# Altium schematic symbol library AG.Connectors.SchLib: 43 symbols
Pins are listed as number, name and electrical type; pins without a type are passive.

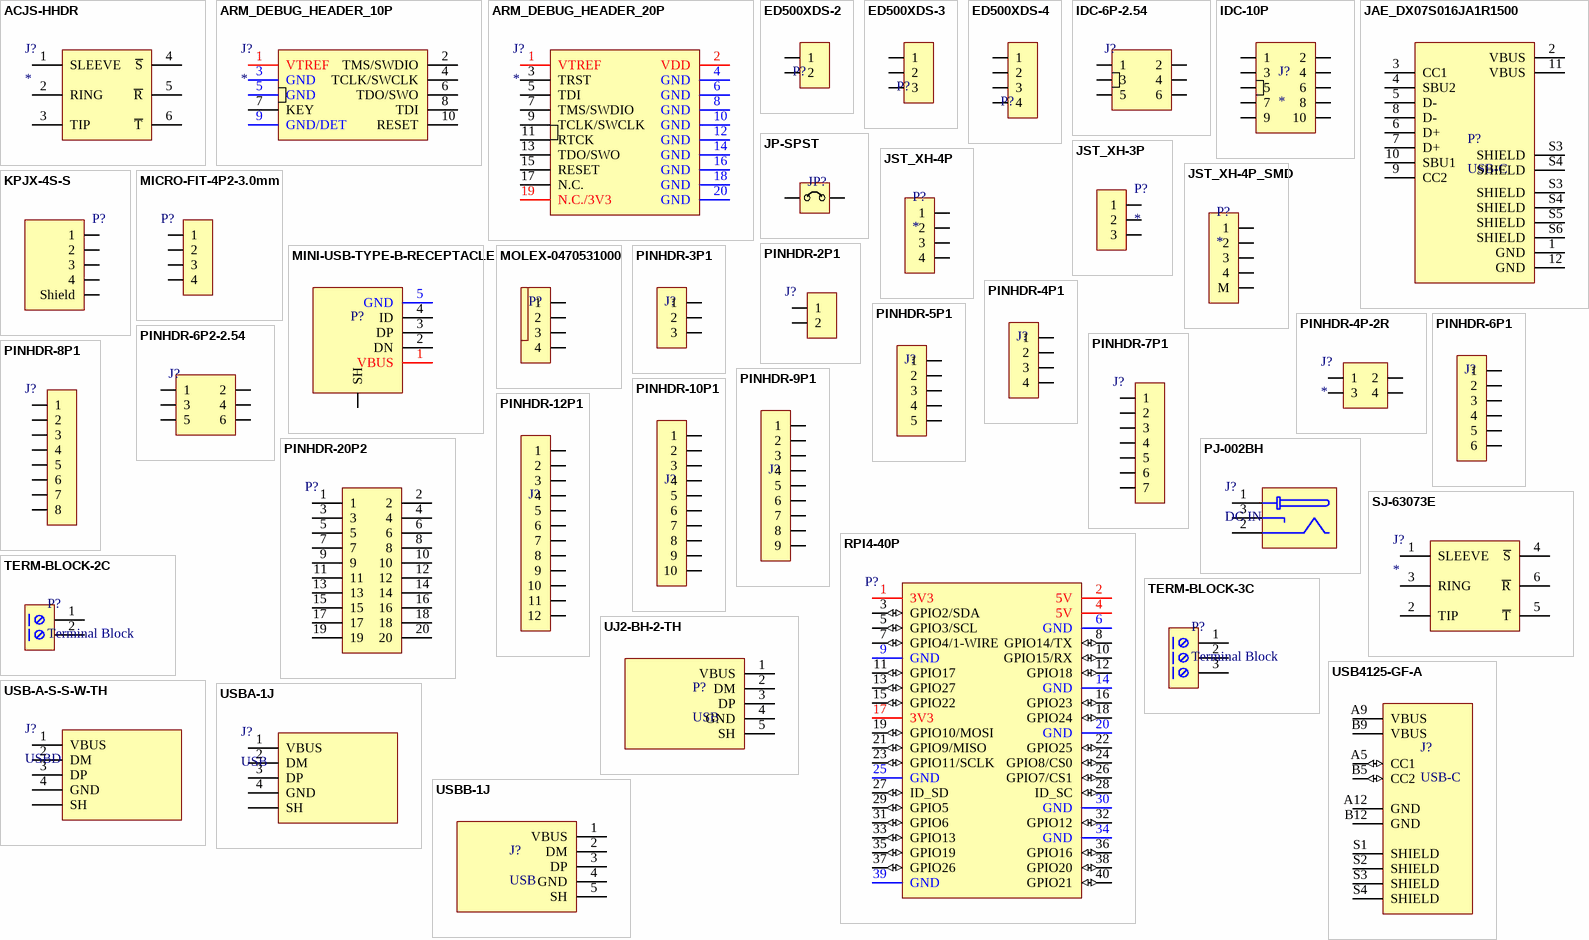
[diagram p0: symbols ACJS-HHDR to USBB-1J]

## ACJS-HHDR
designator J?
1/4" Stereo Jack PCB Receptacle; Manufacturer: Amphenol; Manufacturer Product No: ACJM-HHDR; Alternative Supplier: Belchip; Alternative Supplier Link: https://belchip.by/product/?selected_product=44079; Alternative Supplier Part No: 44079; Mounting Technology: HMT
footprint ACJS-HHDR (1/4" Stereo Jack PCB Receptacle)
pins: 1 SLEEVE, 2 RING, 3 TIP, 4 ~{S}, 5 ~{R}, 6 ~{T}

## ARM_DEBUG_HEADER_10P
designator J?
ARM Cortex Debug 10-Pin Header
footprint ARM_CORTEX_DEBUG_HEADER-1.27-10P-2R (ARM Cortex-M Debug 10-pin Connector 1.27mm Pitch Through Hole)
footprint HEADER-1.27-10P-2R
footprint ARM_CORTEX_DEBUG_HEADER-1.27-10P-2R_NOMASK (ARM Cortex-M Debug 10-pin Connector 1.27mm Pitch Through Hole)
pins: 1 VTREF, 2 TMS/SWDIO, 3 GND, 4 TCLK/SWCLK, 5 GND, 6 TDO/SWO, 7 KEY, 8 TDI, 9 GND/DET, 10 RESET

## ARM_DEBUG_HEADER_20P
designator J?
ARM Standard 20-Pin Header
footprint ARM_STD_20P_HEADER-2.54-20P2 (ARM Standard 20-Pin Connector 2.54mm Pitch)
footprint HEADER-2.54-20P2 (Pin Header 2 Rows 20 Positions Pitch 2.54 mm)
pins: 1 VTREF, 2 VDD, 3 TRST, 4 GND, 5 TDI, 6 GND, 7 TMS/SWDIO, 8 GND, 9 TCLK/SWCLK, 10 GND, 11 RTCK, 12 GND, 13 TDO/SWO, 14 GND, 15 RESET, 16 GND, 17 N.C., 18 GND, 19 N.C./3V3, 20 GND

## ED500XDS-2
designator P?  (value not drawn)
TERM BLK 2P SIDE ENT 5.08MM PCB; PartNo: EDZ500/2DS; URL: https://www.digikey.com/en/products/detail/on-shore-technology-inc/EDZ500-2DS/250582; Datasheet: http://www.on-shore.com/wp-content/uploads/ED500XDS.pdf
footprint ED500XDS-2
pins: 1, 2

## ED500XDS-3
designator P?  (value not drawn)
TERM BLK 3P SIDE ENT 5.08MM PCB; Part No: EDZ500/3DS; Rated Current: 15A; Voltage: 300V; URL: https://www.digikey.com/en/products/detail/on-shore-technology-inc/EDZ500-3DS/250583; Datasheet: http://www.on-shore.com/wp-content/uploads/ED500XDS.pdf; Mounting Technology: HMT
footprint ED500XDS-3
pins: 1, 2, 3

## ED500XDS-4
designator P?  (value not drawn)
TERM BLK 4P SIDE ENT 5.08MM PCB; Rated Current: 15A; Voltage: 300V; Part No: *; URL: *; Datasheet: http://www.on-shore.com/wp-content/uploads/ED500XDS.pdf; Mounting Technology: HMT
pins: 1, 2, 3, 4

## IDC-6P-2.54
designator J?  (value not drawn)
Rectangular Pin Header 6 Positions 2 Rows
pins: 1, 2, 3, 4, 5, 6

## IDC-10P
designator J?
IDC Connector Header Double Row 10 Position; Manufacturer: Wurth Elektronik; Manufacturer Part No: 61201021621; Supplier Part No: 732-2094-ND; Supplier: DigiKey; Supplier Link: https://www.digikey.com/en/products/detail/würth-elektronik/61201021621/2060590; Mounting Technology: THT
footprint WR-BHD-61201021621 (IDC-10P WR-BHD Male Box Header)
footprint IDC-10_100MIL_SIDE
pins: 1, 2, 3, 4, 5, 6, 7, 8, 9, 10

## JAE_DX07S016JA1R1500
designator P?, comment USB-C
CONN RCP USB2.0 TYP C 24P SMD RA; Part Number: DX07S016JA1R1500
footprint JAE_DX07S016JA1R1500 (CONN RCP USB2.0 TYP C 24P SMD RA)
footprint USBC-16P-TH (https://aliexpress.ru/item/1005001283294686.html)
pins: 1 GND (power), 2 VBUS (power), 3 CC1, 4 SBU2, 5 D-, 6 D+, 7 D+, 8 D-, 9 CC2, 10 SBU1, 11 VBUS (power), 12 GND (power), S3 SHIELD, S3 SHIELD, S4 SHIELD, S4 SHIELD, S5 SHIELD, S6 SHIELD

## JP-SPST
designator JP?, comment ON/OFF  (value not drawn)
Jumper (SPST/ON-OFF)
footprint HEADER-2.54-2P1 (Pin Header Single Row 2 Positions Pitch 2.54 mm)
pins: 1, 2

## JST_XH-3P
designator P?
CONN HEADER VERT 3POS 2.5MM
footprint JST_B3B-XH-A_LF_SN
pins: 1, 2, 3

## JST_XH-4P
designator P?
footprint S4BXHSM4TBLFSN
footprint S4BXHSM4TBLFSN_N3D
pins: 1, 2, 3, 4

## JST_XH-4P_SMD
designator P?
footprint S4BXHSM4TBLFSN
footprint S4BXHSM4TBLFSN_N3D
pins: 1, 2, 3, 4, MNT M

## KPJX-4S-S
designator P?  (value not drawn)
Power Mini-DIN 4 Positions
footprint KPJX-4S-S (Kycon KPJX-4S-S Power Mini-DIN Connector 4 Positions)
pins: 1, 2, 3, 4, SH Shield

## MICRO-FIT-4P2-3.0mm
designator P?  (value not drawn)
Molex Micro-Fit 4 Positions 2 Rows
footprint MICRO-FIT-4P2-3.0mm (Molex Micro-Fit 4 Positions 2 Rows 3.0mm Pitch)
pins: 1, 2, 3, 4

## MINI-USB-TYPE-B-RECEPTACLE
designator P?, comment USB  (value not drawn)
CONN RCPT USB2.0 MINI B SMD R/A; Manufacturer: Molex; Manufacturer Product Number: 0675031020; Supplier URL: https://www.digikey.com/en/products/detail/molex/0675031020/1624424; Mounting Technology: HMT; Supplier: DigiKey; Supplier Part No: WM5461CT-ND; Supplier #2: Belchip; Supplier URL #2: https://belchip.by/product/?selected_product=40027; Supplier Part No #2: 40027
footprint MOLEX-0675031020 (CONN RCPT USB2.0 MINI B SMD R/A)
pins: 1 VBUS, 2 DN, 3 DP, 4 ID, 5 GND, SH

## MOLEX-0470531000
designator P?, comment Fan  (value not drawn)
CONN HEADER VERT 4POS 2.54MM; Manufacturer: Molex; PartNo: WM4330-ND; ProductNumber: 0470531000; ShippingPackaging: Bulk; Comments: CPU Fan Male Connector; Supplier: DigiKey; URL: https://www.digikey.com/en/products/detail/molex/0470531000/2421261; Mounting: HMT; UnitPrice: $0.46
footprint MOLEX-0022272041 (CONN HEADER VERT 4POS 2.54MM)
pins: 1, 2, 3, 4

## PINHDR-2P1
designator J?  (value not drawn)
Pin Header Single Row 2 Positions; Mounting Technology: THT
footprint HEADER-2.54-2P1 (Pin Header Single Row 2 Positions Pitch 2.54 mm)
pins: 1, 2

## PINHDR-3P1
designator J?  (value not drawn)
Generic Pin Header 3x1
footprint HEADER-2.54-3P1 (Pin Header Single Row 3 Positions Pitch 2.54 mm)
pins: 1, 2, 3

## PINHDR-4P1
designator J?  (value not drawn)
Generic Pin Header 4x1
footprint HEADER-2.54-4P1 (Pin Header Single Row 4 Positions Pitch 2.54 mm)
pins: 1, 2, 3, 4

## PINHDR-4P-2R
designator J?
Rectangular Header Male Pins Double Row 4 Positions; Mounting Technology: THT
footprint HEADER-2.54-4P-2R (Rectangular Header Male Pins Double Row 4 Positions Pitch 2.54 mm)
pins: 1, 2, 3, 4

## PINHDR-5P1
designator J?  (value not drawn)
Generic Pin Header 5x1
footprint HEADER-2.54-5P1 (Pin Header Single Row 5 Positions Pitch 2.54 mm)
pins: 1, 2, 3, 4, 5

## PINHDR-6P1
designator J?
Pin Header Single Row 6 Positions; Mounting Technology: THT
footprint HEADER-2.54-6P1 (Pin Header Single Row 6 Positions Pitch 2.54 mm)
pins: 1, 2, 3, 4, 5, 6

## PINHDR-6P2-2.54
designator J?  (value not drawn)
Rectangular Pin Header 6 Positions 2 Rows
footprint HEADER-2.54-6P-2R (Rectangular Header Male Pins 4 Positions 2 Rows Pitch 2.54 mm)
pins: 1, 2, 3, 4, 5, 6

## PINHDR-7P1
designator J?
Pin Header Single Row 7 Positions; Mounting Technology: THT
footprint HEADER-2.54-7P1 (Pin Header Single Row 7 Positions Pitch 2.54 mm)
pins: 1, 2, 3, 4, 5, 6, 7

## PINHDR-8P1
designator J?
Pin Header Single Row 8 Positions; Mounting Technology: THT
footprint PINHDR-8P1-2.54 (Pin Header Single Row 8 Positions Pitch 2.54 mm)
pins: 1, 2, 3, 4, 5, 6, 7, 8

## PINHDR-9P1
designator J?  (value not drawn)
Generic Pin Header 9x1
footprint HEADER-2.54-9P1 (Pin Header Single Row 9 Positions Pitch 2.54 mm)
pins: 1, 2, 3, 4, 5, 6, 7, 8, 9

## PINHDR-10P1
designator J?  (value not drawn)
Generic Pin Header 10x1
footprint HEADER-2.54-10P1 (Pin Header Single Row 10 Positions Pitch 2.54 mm)
pins: 1, 2, 3, 4, 5, 6, 7, 8, 9, 10

## PINHDR-12P1
designator J?  (value not drawn)
Generic Pin Header 12x1
pins: 1, 2, 3, 4, 5, 6, 7, 8, 9, 10, 11, 12

## PINHDR-20P2
designator P?, comment Pin Header  (value not drawn)
Generic Pin Header 10x2; Mounting Technology: THT
footprint HEADER-2.54-20P2 (Pin Header 2 Rows 20 Positions Pitch 2.54 mm)
pins: 1, 2, 3, 4, 5, 6, 7, 8, 9, 10, 11, 12, 13, 14, 15, 16, 17, 18, 19, 20

## PJ-002BH
designator J?, comment DC IN
CONN PWR JACK 2.5X5.5MM SOLDER; Manufacturer: CUI Devices; PartNo: CP-002BH-ND; ProductNumber: PJ-002BH; Supplier: DigiKey; URL: https://www.digikey.com/en/products/detail/cui-devices/PJ-002BH/408447; UnitPrice: $0.74; MountType: THT
footprint CON JACK PWR 2.5mm PJ-002BH - duplicate (Connector, Power Jack, 2.5 mm x 5.1 mm, 24 V, 5 A, Right Angle, TH)
pins: 1, 2, 3

## RPI4-40P
designator P?  (value not drawn)
Raspberry Pi 4 Model B+ Compatible GPIO Header
footprint IDC-40P-2.54 (IDC Male Socket 40 Pin 2.54 mm)
footprint HEADER-2.54-40P2 (Pin Header 2 Rows 40 Positions Pitch 2.54 mm)
footprint HEADER-2.54-RECEPT-40P-2R (40 Position Receptacle, Bottom or Top Entry Connector 0.100" (2.54mm) Through Hole Gold)
footprint HEADER-2.54-RCPT-40P-2R-BTL (40 Position Receptacle, Bottom or Top Entry Connector 0.100" (2.54mm) Through Hole Gold Reverse)
pins: 1 3V3 (power), 2 5V (power), 3 GPIO2/SDA (io), 4 5V (power), 5 GPIO3/SCL (io), 6 GND (power), 7 GPIO4/1-WIRE (io), 8 GPIO14/TX (io), 9 GND (power), 10 GPIO15/RX (io), 11 GPIO17 (io), 12 GPIO18 (io), 13 GPIO27 (io), 14 GND (power), 15 GPIO22 (io), 16 GPIO23 (io), 17 3V3 (power), 18 GPIO24 (io), 19 GPIO10/MOSI (io), 20 GND (power), 21 GPIO9/MISO (io), 22 GPIO25 (io), 23 GPIO11/SCLK (io), 24 GPIO8/CS0 (io), 25 GND (power), 26 GPIO7/CS1 (io), 27 ID_SD (io), 28 ID_SC (io), 29 GPIO5 (io), 30 GND (power), 31 GPIO6 (io), 32 GPIO12 (io), 33 GPIO13 (io), 34 GND (power), 35 GPIO19 (io), 36 GPIO16 (io), 37 GPIO26 (io), 38 GPIO20 (io), 39 GND (power), 40 GPIO21 (io)
1 alternate drawing of the same symbol

## SJ-63073E
designator J?
1/4" Stereo Jack PCB Receptacle
footprint CUI_SJ-63073E (1/4" Stereo Jack PCB Receptacle)
pins: 1 SLEEVE, 2 TIP, 3 RING, 4 ~{S}, 5 ~{T}, 6 ~{R}

## TERM-BLOCK-2C
designator P?, comment Terminal Block
footprint KF128-2P (Compatible with Phoenix Contact 1803277)
pins: 1, 2

## TERM-BLOCK-3C
designator P?, comment Terminal Block
pins: 1, 2, 3

## UJ2-BH-2-TH
designator P?, comment USB
CONN RCPT USB2.0 TYPEB 4POS R/A; PartNo: 102-5884-ND; Manufacturer: CUI Devices; ProductNumber: UJ2-BH-2-TH; UnitPrice: $0.62; URL: https://www.digikey.com/en/products/detail/cui-devices/UJ2-BH-2-TH/6188079; MountingTechnology: HMT
footprint UJ2-BH-2-TH (USB 2.0 Type B Receptacle (CUI UJ2-BH-2-TH)); pin to pad 5>SH
pins: 1 VBUS, 2 DM, 3 DP, 4 GND, 5 SH

## USB4125-GF-A
designator J?, comment USB-C
USB C REC 6P SMT MID MNT 1.6MM O
footprint GCT_USB4125-GF-A (USB4515-GF-A USB C REC 6P SMT MID MNT 1.6MM O)
pins: A5 CC1 (io), A9 VBUS (power), A12 GND (power), B5 CC2 (io), B9 VBUS (power), B12 GND (power), S1 SHIELD, S2 SHIELD, S3 SHIELD, S4 SHIELD

## USB-A-S-S-W-TH
designator J?, comment USBD
CONN RCPT USB2.0 TYPEA 4POS R/A; Manufacturer: Samtec Inc.; Product Number: USB-A-S-S-W-TH; Supplier: DigiKey; Mounting Type: THT; Supplier Link: https://www.digikey.com/en/products/detail/samtec-inc/USB-A-S-S-W-TH/6679110; Supplier Part No: SAM10373-ND
footprint SAMTEC_USB-A-S-X-X-TH (CONN RCPT USB2.0 TYPEA 4POS RA)
pins: 1 VBUS, 2 DM, 3 DP, 4 GND, SH

## USBA-1J
designator J?, comment USB
USB Type A Receptacle; Manufacturer: Connfly; Manufacturer Product No: USBA-1J (DS1095-WNR0); Supplier: Chipdip; Mounting Type: THT; Supplier Link: https://www.chipdip.by/product/usba-1j; Supplier Part No: 844933571; Case: USB Type A
footprint USBA-1J (USB-A 2.0 Receptacle Connector 4 Position Through Hole Right Angle)
pins: 1 VBUS, 2 DM, 3 DP, 4 GND, SH

## USBB-1J
designator J?, comment USB
USB Type B Receptacle; Manufacturer: Connfly; Product Number: USBB-1J (DS1099-WN0); Mounting Type: THT; Case: USB Type B; Supplier: Chipdip; Supplier Link: https://www.chipdip.by/product/usbb-1j; Supplier Part No: 249636968
footprint UJ2-BH-2-TH (USB 2.0 Type B Receptacle (CUI UJ2-BH-2-TH)); pin to pad 5>SH
pins: 1 VBUS, 2 DM, 3 DP, 4 GND, 5 SH

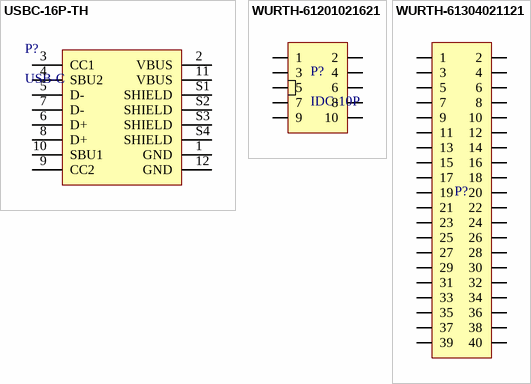
[diagram p1: symbols USBC-16P-TH to WURTH-61304021121]

## USBC-16P-TH
designator P?, comment USB-C
USB Type C Socket 16-Pin
footprint USBC-16P-TH (https://aliexpress.ru/item/1005001283294686.html)
pins: 1 GND (power), 2 VBUS (power), 3 CC1, 4 SBU2, 5 D-, 6 D+, 7 D-, 8 D+, 9 CC2, 10 SBU1, 11 VBUS (power), 12 GND (power), S1 SHIELD, S2 SHIELD, S3 SHIELD, S4 SHIELD

## WURTH-61201021621
designator P?, comment IDC-10P
CONN HEADER VERT 10POS 2.54MM; PartNo: 732-2094-ND; Manufacturer: Würth Elektronik; ProductNumber: 61201021621; Supplier: DigiKey; URL: https://www.digikey.com/en/products/detail/würth-elektronik/61201021621/2060590; SMD: N/A; UnitPrice: $0.45; MountingType: TH; Package: *
footprint WR-BHD-61201021621 (IDC-10P WR-BHD Male Box Header)
pins: 1, 2, 3, 4, 5, 6, 7, 8, 9, 10

## WURTH-61304021121
designator P?  (value not drawn)
CONN HEADER VERT 40POS 2.54MM; Manufacturer: Würth Elektronik; Manufacturer Product No: 61304021121; Supplier Part No: 732-5310-ND; Supplier: DigiKey; Supplier URL: https://www.digikey.com/en/products/detail/w%C3%BCrth-elektronik/61304021121/4846886; Mounting Technology: THT
pins: 1 (power), 2 (power), 3, 4 (power), 5, 6 (power), 7, 8, 9 (power), 10, 11, 12, 13, 14 (power), 15, 16, 17 (power), 18, 19, 20 (power), 21, 22, 23, 24, 25 (power), 26, 27, 28, 29, 30 (power), 31, 32, 33, 34 (power), 35, 36, 37, 38, 39 (power), 40